# Altium integrated library Diodes - TVS.IntLib: 5379 symbols (part 25 of 122)
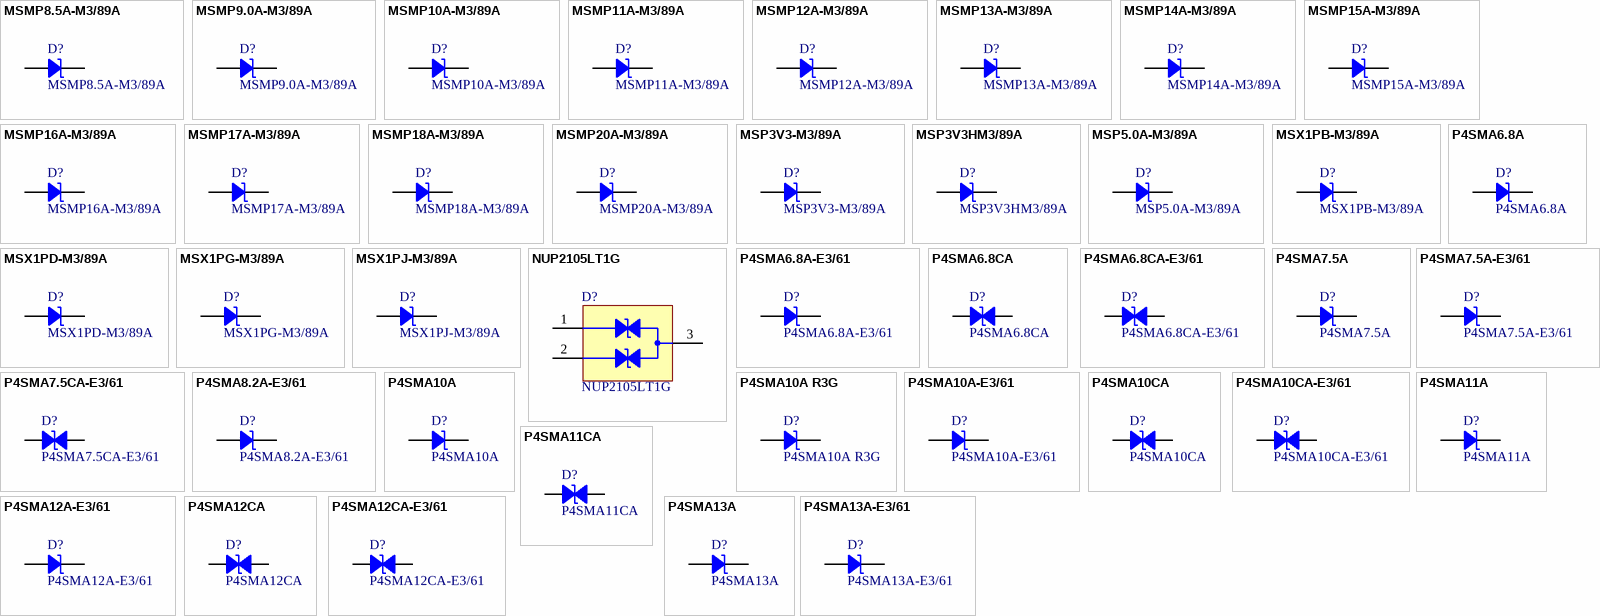
[diagram p158: symbols MSMP8.5A-M3/89A to P4SMA13A-E3/61]

## NUP2105LT1G
designator D?
TVS DIODE 24V 44V SOT23-3; Manufacturer: ON Semiconductor; Bidirectional Channels: 2; Capacitance @ Frequency: 30pF @ 1MHz; Current - Peak Pulse (10/1000µs): 8A (8/20µs); Power Line Protection: No; Power - Peak Pulse: 350W; Type: Zener; Voltage - Breakdown (Min): 26.2V; Voltage - Reverse Standoff (Typ): 24V (Min); Part Number: NUP2105LT1G; Applications: General Purpose; ComponentLink1Description: Datasheet; ComponentLink1URL: http://www.onsemi.com/pub/Collateral/NUP2105L-D.PDF; ComponentLink2Description: DigiKey Link; ComponentLink2URL: http://digikey.com/product-detail/en/on-semiconductor/NUP2105LT1G/NUP2105LT1GOSCT-ND/1485001; Device Package: TO-236-3, SC-59, SOT-23-3; LastUpdated: 3/30/2020 4:33:57 PM; Lifecycle Status: Active; Minimum Order: 1; Mounting Type: Surface Mount; Operating Temperature: -55°C ~ 150°C (TJ); Package / Case: TO-236-3, SC-59, SOT-23-3; Packaging: TapeAndReel; PartId: 10506; Part Status: Active; Price: 0.09; Series: -; Supplier 1: DigiKey; Supplier Part Number 1: NUP2105LT1GOSCT-ND; Supplier Device Package: SOT-23-3 (TO-236); Voltage - Clamping (Max) @ Ipp: 44V
footprint ON SEMI SOT-23-3
pins: 1 I/O 1, 2 GND, 3 I/O 2

## P4SMA6.8A
designator D?
TVS DIODE 5.8V 10.5V DO214AC; Manufacturer: Bourns Inc.; Current - Peak Pulse (10/1000µs): 39A; Power Line Protection: No; Power - Peak Pulse: 400W; Type: Zener; Unidirectional Channels: 1; Voltage - Breakdown (Min): 6.45V; Part Number: P4SMA6.8A; Applications: General Purpose; ComponentLink1Description: Datasheet; ComponentLink1URL: https://www.bourns.com/docs/Product-Datasheets/P4SMA.pdf; ComponentLink2Description: DigiKey Link; ComponentLink2URL: http://digikey.com/product-detail/en/bourns-inc/P4SMA6.8A/P4SMA6.8ABBCT-ND/6181592; LastUpdated: 9/2/2020 1:20:14 AM; Lifecycle Status: Active; Minimum Order: 1; Mounting Type: Surface Mount; Operating Temperature: -55°C ~ 150°C (TJ); Package / Case: DO-214AC, SMA; Packaging: TapeAndReel; PartId: 5672; Part Status: Active; Price: 0.09; Series: -; Supplier 1: DigiKey; Supplier Part Number 1: P4SMA6.8ABBCT-ND; Supplier Device Package: DO-214AC (SMA); Voltage - Clamping (Max) @ Ipp: 10.5V; Voltage - Reverse Standoff (Typ): 5.8V
footprint DO214AC SMA
pins: 1, 2

## P4SMA6.8A-E3/61
designator D?
TVS DIODE 5.8V 10.5V DO214AC; Manufacturer: Vishay Semiconductor Diodes Division; Current - Peak Pulse (10/1000µs): 38.1A; Power Line Protection: No; Power - Peak Pulse: 400W; Type: Zener; Unidirectional Channels: 1; Voltage - Breakdown (Min): 6.45V; Part Number: P4SMA6.8A-E3/61; Applications: General Purpose; ComponentLink1Description: Datasheet; ComponentLink1URL: http://www.vishay.com/docs/88367/p4sma.pdf; ComponentLink2Description: DigiKey Link; ComponentLink2URL: http://digikey.com/product-detail/en/vishay-semiconductor-diodes-division/P4SMA6.8A-E3-61/P4SMA6.8A-E3-61GICT-ND/5639066; LastUpdated: 9/2/2020 1:20:15 AM; Lifecycle Status: Active; Minimum Order: 1; Mounting Type: Surface Mount; Operating Temperature: -65°C ~ 150°C (TJ); Package / Case: DO-214AC, SMA; Packaging: TapeAndReel; PartId: 5864; Part Status: Active; Price: 0.10; Series: P4SMA, TransZorb®; Supplier 1: DigiKey; Supplier Part Number 1: P4SMA6.8A-E3/61GICT-ND; Supplier Device Package: DO-214AC (SMA); Voltage - Clamping (Max) @ Ipp: 10.5V; Voltage - Reverse Standoff (Typ): 5.8V
footprint DO214AC SMA
pins: 1, 2

## P4SMA6.8CA
designator D?
TVS DIODE 5.8V 10.5V DO214AC; Manufacturer: Bourns Inc.; Bidirectional Channels: 1; Current - Peak Pulse (10/1000µs): 39A; Power Line Protection: No; Power - Peak Pulse: 400W; Type: Zener; Voltage - Breakdown (Min): 6.45V; Part Number: P4SMA6.8CA; Applications: General Purpose; ComponentLink1Description: Datasheet; ComponentLink1URL: https://www.bourns.com/docs/Product-Datasheets/P4SMA.pdf; ComponentLink2Description: DigiKey Link; ComponentLink2URL: http://digikey.com/product-detail/en/bourns-inc/P4SMA6.8CA/P4SMA6.8CABBCT-ND/6708223; LastUpdated: 9/2/2020 1:27:51 AM; Lifecycle Status: Active; Minimum Order: 1; Mounting Type: Surface Mount; Operating Temperature: -55°C ~ 150°C (TJ); Package / Case: DO-214AC, SMA; Packaging: TapeAndReel; PartId: 7340; Part Status: Active; Price: 0.09; Series: -; Supplier 1: DigiKey; Supplier Part Number 1: P4SMA6.8CABBCT-ND; Supplier Device Package: DO-214AC (SMA); Voltage - Clamping (Max) @ Ipp: 10.5V; Voltage - Reverse Standoff (Typ): 5.8V
footprint DO214AC SMA
pins: 1, 2

## P4SMA6.8CA-E3/61
designator D?
TVS DIODE 5.8V 10.5V DO214AC; Manufacturer: Vishay Semiconductor Diodes Division; Bidirectional Channels: 1; Current - Peak Pulse (10/1000µs): 38.1A; Power Line Protection: No; Power - Peak Pulse: 400W; Type: Zener; Voltage - Breakdown (Min): 6.45V; Part Number: P4SMA6.8CA-E3/61; Applications: General Purpose; ComponentLink1Description: Datasheet; ComponentLink1URL: http://www.vishay.com/docs/88367/p4sma.pdf; ComponentLink2Description: DigiKey Link; ComponentLink2URL: http://digikey.com/product-detail/en/vishay-semiconductor-diodes-division/P4SMA6.8CA-E3-61/P4SMA6.8CA-E3-61GICT-ND/5639067; LastUpdated: 9/2/2020 1:27:50 AM; Lifecycle Status: Active; Minimum Order: 1; Mounting Type: Surface Mount; Operating Temperature: -65°C ~ 150°C (TJ); Package / Case: DO-214AC, SMA; Packaging: TapeAndReel; PartId: 7286; Part Status: Active; Price: 0.11; Series: P4SMA, TransZorb®; Supplier 1: DigiKey; Supplier Part Number 1: P4SMA6.8CA-E3/61GICT-ND; Supplier Device Package: DO-214AC (SMA); Voltage - Clamping (Max) @ Ipp: 10.5V; Voltage - Reverse Standoff (Typ): 5.8V
footprint DO214AC SMA
pins: 1, 2

## P4SMA7.5A
designator D?
TVS DIODE 6.4V 11.3V DO214AC; Manufacturer: Bourns Inc.; Current - Peak Pulse (10/1000µs): 36.3A; Power Line Protection: No; Power - Peak Pulse: 400W; Type: Zener; Unidirectional Channels: 1; Voltage - Breakdown (Min): 7.13V; Part Number: P4SMA7.5A; Applications: General Purpose; ComponentLink1Description: Datasheet; ComponentLink1URL: https://www.bourns.com/docs/Product-Datasheets/P4SMA.pdf; ComponentLink2Description: DigiKey Link; ComponentLink2URL: http://digikey.com/product-detail/en/bourns-inc/P4SMA7.5A/P4SMA7.5ABBCT-ND/6708225; LastUpdated: 9/2/2020 1:20:14 AM; Lifecycle Status: Active; Minimum Order: 1; Mounting Type: Surface Mount; Operating Temperature: -55°C ~ 150°C (TJ); Package / Case: DO-214AC, SMA; Packaging: TapeAndReel; PartId: 5662; Part Status: Active; Price: 0.09; Series: -; Supplier 1: DigiKey; Supplier Part Number 1: P4SMA7.5ABBCT-ND; Supplier Device Package: DO-214AC (SMA); Voltage - Clamping (Max) @ Ipp: 11.3V; Voltage - Reverse Standoff (Typ): 6.4V
footprint DO214AC SMA
pins: 1, 2

## P4SMA7.5A-E3/61
designator D?
TVS DIODE 6.4V 11.3V DO214AC; Manufacturer: Vishay Semiconductor Diodes Division; Current - Peak Pulse (10/1000µs): 35.4A; Power Line Protection: No; Power - Peak Pulse: 400W; Type: Zener; Unidirectional Channels: 1; Voltage - Breakdown (Min): 7.13V; Part Number: P4SMA7.5A-E3/61; Applications: General Purpose; ComponentLink1Description: Datasheet; ComponentLink1URL: http://www.vishay.com/docs/88367/p4sma.pdf; ComponentLink2Description: DigiKey Link; ComponentLink2URL: http://digikey.com/product-detail/en/vishay-semiconductor-diodes-division/P4SMA7.5A-E3-61/P4SMA7.5A-E3-61GICT-ND/5639072; LastUpdated: 9/2/2020 1:20:14 AM; Lifecycle Status: Active; Minimum Order: 1; Mounting Type: Surface Mount; Operating Temperature: -65°C ~ 150°C (TJ); Package / Case: DO-214AC, SMA; Packaging: TapeAndReel; PartId: 5682; Part Status: Active; Price: 0.10; Series: P4SMA, TransZorb®; Supplier 1: DigiKey; Supplier Part Number 1: P4SMA7.5A-E3/61GICT-ND; Supplier Device Package: DO-214AC (SMA); Voltage - Clamping (Max) @ Ipp: 11.3V; Voltage - Reverse Standoff (Typ): 6.4V
footprint DO214AC SMA
pins: 1, 2

## P4SMA7.5CA-E3/61
designator D?
TVS DIODE 6.4V 11.3V DO214AC; Manufacturer: Vishay Semiconductor Diodes Division; Bidirectional Channels: 1; Current - Peak Pulse (10/1000µs): 35.4A; Power Line Protection: No; Power - Peak Pulse: 400W; Type: Zener; Voltage - Breakdown (Min): 7.13V; Part Number: P4SMA7.5CA-E3/61; Applications: General Purpose; ComponentLink1Description: Datasheet; ComponentLink1URL: http://www.vishay.com/docs/88367/p4sma.pdf; ComponentLink2Description: DigiKey Link; ComponentLink2URL: http://digikey.com/product-detail/en/vishay-semiconductor-diodes-division/P4SMA7.5CA-E3-61/P4SMA7.5CA-E3-61GICT-ND/5639073; LastUpdated: 9/2/2020 1:27:51 AM; Lifecycle Status: Active; Minimum Order: 1; Mounting Type: Surface Mount; Operating Temperature: -65°C ~ 150°C (TJ); Package / Case: DO-214AC, SMA; Packaging: TapeAndReel; PartId: 7354; Part Status: Active; Price: 0.11; Series: P4SMA, TransZorb®; Supplier 1: DigiKey; Supplier Part Number 1: P4SMA7.5CA-E3/61GICT-ND; Supplier Device Package: DO-214AC (SMA); Voltage - Clamping (Max) @ Ipp: 11.3V; Voltage - Reverse Standoff (Typ): 6.4V
footprint DO214AC SMA
pins: 1, 2

## P4SMA8.2A-E3/61
designator D?
TVS DIODE 7.02V 12.1V DO214AC; Manufacturer: Vishay Semiconductor Diodes Division; Current - Peak Pulse (10/1000µs): 33.1A; Power Line Protection: No; Power - Peak Pulse: 400W; Type: Zener; Unidirectional Channels: 1; Voltage - Breakdown (Min): 7.79V; Part Number: P4SMA8.2A-E3/61; Applications: General Purpose; ComponentLink1Description: Datasheet; ComponentLink1URL: http://www.vishay.com/docs/88367/p4sma.pdf; ComponentLink2Description: DigiKey Link; ComponentLink2URL: http://digikey.com/product-detail/en/vishay-semiconductor-diodes-division/P4SMA8.2A-E3-61/P4SMA8.2A-E3-61GICT-ND/5639076; LastUpdated: 9/2/2020 1:20:13 AM; Lifecycle Status: Active; Minimum Order: 1; Mounting Type: Surface Mount; Operating Temperature: -65°C ~ 150°C (TJ); Package / Case: DO-214AC, SMA; Packaging: TapeAndReel; PartId: 5595; Part Status: Active; Price: 0.10; Series: P4SMA, TransZorb®; Supplier 1: DigiKey; Supplier Part Number 1: P4SMA8.2A-E3/61GICT-ND; Supplier Device Package: DO-214AC (SMA); Voltage - Clamping (Max) @ Ipp: 12.1V; Voltage - Reverse Standoff (Typ): 7.02V
footprint DO214AC SMA
pins: 1, 2

## P4SMA10A
designator D?
TVS DIODE 8.55V 14.5V DO214AC; Manufacturer: Littelfuse Inc.; Current - Peak Pulse (10/1000µs): 28.3A; Power Line Protection: No; Power - Peak Pulse: 400W; Type: Zener; Unidirectional Channels: 1; Voltage - Breakdown (Min): 9.5V; Part Number: P4SMA10A; Applications: General Purpose; ComponentLink1Description: Datasheet; ComponentLink1URL: https://www.littelfuse.com/~/media/electronics/datasheets/tvs_diodes/littelfuse_tvs_diode_p4sma_datasheet.pdf.pdf; ComponentLink2Description: DigiKey Link; ComponentLink2URL: http://digikey.com/product-detail/en/littelfuse-inc/P4SMA10A/P4SMA10ACT-ND/2770325; LastUpdated: 9/2/2020 1:20:16 AM; Lifecycle Status: Active; Minimum Order: 1; Mounting Type: Surface Mount; Operating Temperature: -65°C ~ 150°C (TJ); Package / Case: DO-214AC, SMA; Packaging: TapeAndReel; PartId: 5910; Part Status: Active; Price: 0.13; Series: P4SMA; Supplier 1: DigiKey; Supplier Part Number 1: P4SMA10ACT-ND; Supplier Device Package: DO-214AC (SMA); Voltage - Clamping (Max) @ Ipp: 14.5V; Voltage - Reverse Standoff (Typ): 8.55V
footprint DO214AC SMA
pins: 1, 2

## P4SMA10A R3G
designator D?
TVS DIODE 8.55V 14.5V DO214AC; Manufacturer: Taiwan Semiconductor Corporation; Current - Peak Pulse (10/1000µs): 29A; Power Line Protection: No; Power - Peak Pulse: 400W; Type: Zener; Unidirectional Channels: 1; Voltage - Breakdown (Min): 9.5V; Part Number: P4SMA10A R3G; Applications: General Purpose; ComponentLink1Description: Datasheet; ComponentLink1URL: https://www.taiwansemi.com/products/datasheet/P4SMA%20SERIES_Q1705.pdf; ComponentLink2Description: DigiKey Link; ComponentLink2URL: http://digikey.com/product-detail/en/taiwan-semiconductor-corporation/P4SMA10A-R3G/P4SMA10AR3GCT-ND/7644319; LastUpdated: 9/2/2020 1:20:12 AM; Lifecycle Status: Active; Minimum Order: 1; Mounting Type: Surface Mount; Operating Temperature: -55°C ~ 150°C (TJ); Package / Case: DO-214AC, SMA; Packaging: TapeAndReel; PartId: 5551; Part Status: Active; Price: 0.11; Series: P4SMA; Supplier 1: DigiKey; Supplier Part Number 1: P4SMA10AR3GCT-ND; Supplier Device Package: DO-214AC (SMA); Voltage - Clamping (Max) @ Ipp: 14.5V; Voltage - Reverse Standoff (Typ): 8.55V
footprint DO214AC SMA
pins: 1, 2

## P4SMA10A-E3/61
designator D?
TVS DIODE 8.55V 14.5V DO214AC; Manufacturer: Vishay Semiconductor Diodes Division; Current - Peak Pulse (10/1000µs): 27.6A; Power Line Protection: No; Power - Peak Pulse: 400W; Type: Zener; Unidirectional Channels: 1; Voltage - Breakdown (Min): 9.5V; Part Number: P4SMA10A-E3/61; Applications: General Purpose; ComponentLink1Description: Datasheet; ComponentLink1URL: http://www.vishay.com/docs/88367/p4sma.pdf; ComponentLink2Description: DigiKey Link; ComponentLink2URL: http://digikey.com/product-detail/en/vishay-semiconductor-diodes-division/P4SMA10A-E3-61/P4SMA10A-E3-61GICT-ND/5639016; LastUpdated: 9/2/2020 1:20:17 AM; Lifecycle Status: Active; Minimum Order: 1; Mounting Type: Surface Mount; Operating Temperature: -65°C ~ 150°C (TJ); Package / Case: DO-214AC, SMA; Packaging: TapeAndReel; PartId: 6080; Part Status: Active; Price: 0.10; Series: P4SMA, TransZorb®; Supplier 1: DigiKey; Supplier Part Number 1: P4SMA10A-E3/61GICT-ND; Supplier Device Package: DO-214AC (SMA); Voltage - Clamping (Max) @ Ipp: 14.5V; Voltage - Reverse Standoff (Typ): 8.55V
footprint DO214AC SMA
pins: 1, 2

## P4SMA10CA
designator D?
TVS DIODE 8.55V 14.5V DO214AC; Manufacturer: Bourns Inc.; Bidirectional Channels: 1; Current - Peak Pulse (10/1000µs): 28.3A; Power Line Protection: No; Power - Peak Pulse: 400W; Type: Zener; Voltage - Breakdown (Min): 9.5V; Part Number: P4SMA10CA; Applications: General Purpose; ComponentLink1Description: Datasheet; ComponentLink1URL: https://www.bourns.com/docs/Product-Datasheets/P4SMA.pdf; ComponentLink2Description: DigiKey Link; ComponentLink2URL: http://digikey.com/product-detail/en/bourns-inc/P4SMA10CA/P4SMA10CABBCT-ND/6708197; LastUpdated: 9/2/2020 1:27:51 AM; Lifecycle Status: Active; Minimum Order: 1; Mounting Type: Surface Mount; Operating Temperature: -55°C ~ 150°C (TJ); Package / Case: DO-214AC, SMA; Packaging: TapeAndReel; PartId: 7342; Part Status: Active; Price: 0.09; Series: -; Supplier 1: DigiKey; Supplier Part Number 1: P4SMA10CABBCT-ND; Supplier Device Package: DO-214AC (SMA); Voltage - Clamping (Max) @ Ipp: 14.5V; Voltage - Reverse Standoff (Typ): 8.55V
footprint DO214AC SMA
pins: 1, 2

## P4SMA10CA-E3/61
designator D?
TVS DIODE 8.55V 14.5V DO214AC; Manufacturer: Vishay Semiconductor Diodes Division; Bidirectional Channels: 1; Current - Peak Pulse (10/1000µs): 27.6A; Power Line Protection: No; Power - Peak Pulse: 400W; Type: Zener; Voltage - Breakdown (Min): 9.5V; Part Number: P4SMA10CA-E3/61; Applications: General Purpose; ComponentLink1Description: Datasheet; ComponentLink1URL: http://www.vishay.com/docs/88367/p4sma.pdf; ComponentLink2Description: DigiKey Link; ComponentLink2URL: http://digikey.com/product-detail/en/vishay-semiconductor-diodes-division/P4SMA10CA-E3-61/P4SMA10CA-E3-61GICT-ND/5639017; LastUpdated: 9/2/2020 1:27:53 AM; Lifecycle Status: Active; Minimum Order: 1; Mounting Type: Surface Mount; Operating Temperature: -65°C ~ 150°C (TJ); Package / Case: DO-214AC, SMA; Packaging: TapeAndReel; PartId: 7587; Part Status: Active; Price: 0.11; Series: P4SMA, TransZorb®; Supplier 1: DigiKey; Supplier Part Number 1: P4SMA10CA-E3/61GICT-ND; Supplier Device Package: DO-214AC (SMA); Voltage - Clamping (Max) @ Ipp: 14.5V; Voltage - Reverse Standoff (Typ): 8.55V
footprint DO214AC SMA
pins: 1, 2

## P4SMA11A
designator D?
TVS DIODE 9.4V 15.6V DO214AC; Manufacturer: Bourns Inc.; Current - Peak Pulse (10/1000µs): 26.3A; Power Line Protection: No; Power - Peak Pulse: 400W; Type: Zener; Unidirectional Channels: 1; Voltage - Breakdown (Min): 10.5V; Part Number: P4SMA11A; Applications: General Purpose; ComponentLink1Description: Datasheet; ComponentLink1URL: https://www.bourns.com/docs/Product-Datasheets/P4SMA.pdf; ComponentLink2Description: DigiKey Link; ComponentLink2URL: http://digikey.com/product-detail/en/bourns-inc/P4SMA11A/P4SMA11ABBCT-ND/6708198; LastUpdated: 9/2/2020 1:20:18 AM; Lifecycle Status: Active; Minimum Order: 1; Mounting Type: Surface Mount; Operating Temperature: -55°C ~ 150°C (TJ); Package / Case: DO-214AC, SMA; Packaging: TapeAndReel; PartId: 6144; Part Status: Active; Price: 0.09; Series: -; Supplier 1: DigiKey; Supplier Part Number 1: P4SMA11ABBCT-ND; Supplier Device Package: DO-214AC (SMA); Voltage - Clamping (Max) @ Ipp: 15.6V; Voltage - Reverse Standoff (Typ): 9.4V
footprint DO214AC SMA
pins: 1, 2

## P4SMA11CA
designator D?
TVS DIODE 9.4V 15.6V DO214AC; Manufacturer: Littelfuse Inc.; Bidirectional Channels: 1; Current - Peak Pulse (10/1000µs): 26.3A; Power Line Protection: No; Power - Peak Pulse: 400W; Type: Zener; Voltage - Breakdown (Min): 10.5V; Part Number: P4SMA11CA; Applications: General Purpose; ComponentLink1Description: Datasheet; ComponentLink1URL: https://www.littelfuse.com/~/media/electronics/datasheets/tvs_diodes/littelfuse_tvs_diode_p4sma_datasheet.pdf.pdf; ComponentLink2Description: DigiKey Link; ComponentLink2URL: http://digikey.com/product-detail/en/littelfuse-inc/P4SMA11CA/P4SMA11CACT-ND/2770327; LastUpdated: 9/2/2020 1:27:52 AM; Lifecycle Status: Active; Minimum Order: 1; Mounting Type: Surface Mount; Operating Temperature: -65°C ~ 150°C (TJ); Package / Case: DO-214AC, SMA; Packaging: TapeAndReel; PartId: 7497; Part Status: Active; Price: 0.14; Series: P4SMA; Supplier 1: DigiKey; Supplier Part Number 1: P4SMA11CACT-ND; Supplier Device Package: DO-214AC (SMA); Voltage - Clamping (Max) @ Ipp: 15.6V; Voltage - Reverse Standoff (Typ): 9.4V
footprint DO214AC SMA
pins: 1, 2

## P4SMA12A-E3/61
designator D?
TVS DIODE 10.2V 16.7V DO214AC; Manufacturer: Vishay Semiconductor Diodes Division; Current - Peak Pulse (10/1000µs): 24A; Power Line Protection: No; Power - Peak Pulse: 400W; Type: Zener; Unidirectional Channels: 1; Voltage - Breakdown (Min): 11.4V; Part Number: P4SMA12A-E3/61; Applications: General Purpose; ComponentLink1Description: Datasheet; ComponentLink1URL: http://www.vishay.com/docs/88367/p4sma.pdf; ComponentLink2Description: DigiKey Link; ComponentLink2URL: http://digikey.com/product-detail/en/vishay-semiconductor-diodes-division/P4SMA12A-E3-61/P4SMA12A-E3-61GICT-ND/5639020; LastUpdated: 9/2/2020 1:20:17 AM; Lifecycle Status: Active; Minimum Order: 1; Mounting Type: Surface Mount; Operating Temperature: -65°C ~ 150°C (TJ); Package / Case: DO-214AC, SMA; Packaging: TapeAndReel; PartId: 6078; Part Status: Active; Price: 0.10; Series: P4SMA, TransZorb®; Supplier 1: DigiKey; Supplier Part Number 1: P4SMA12A-E3/61GICT-ND; Supplier Device Package: DO-214AC (SMA); Voltage - Clamping (Max) @ Ipp: 16.7V; Voltage - Reverse Standoff (Typ): 10.2V
footprint DO214AC SMA
pins: 1, 2

## P4SMA12CA
designator D?
TVS DIODE 10.2V 16.7V DO214AC; Manufacturer: Bourns Inc.; Bidirectional Channels: 1; Current - Peak Pulse (10/1000µs): 24.6A; Power Line Protection: No; Power - Peak Pulse: 400W; Type: Zener; Voltage - Breakdown (Min): 11.4V; Part Number: P4SMA12CA; Applications: General Purpose; ComponentLink1Description: Datasheet; ComponentLink1URL: https://www.bourns.com/docs/Product-Datasheets/P4SMA.pdf; ComponentLink2Description: DigiKey Link; ComponentLink2URL: http://digikey.com/product-detail/en/bourns-inc/P4SMA12CA/P4SMA12CABBCT-ND/6708199; LastUpdated: 9/2/2020 1:27:52 AM; Lifecycle Status: Active; Minimum Order: 1; Mounting Type: Surface Mount; Operating Temperature: -55°C ~ 150°C (TJ); Package / Case: DO-214AC, SMA; Packaging: TapeAndReel; PartId: 7466; Part Status: Active; Price: 0.09; Series: -; Supplier 1: DigiKey; Supplier Part Number 1: P4SMA12CABBCT-ND; Supplier Device Package: DO-214AC (SMA); Voltage - Clamping (Max) @ Ipp: 16.7V; Voltage - Reverse Standoff (Typ): 10.2V
footprint DO214AC SMA
pins: 1, 2

## P4SMA12CA-E3/61
designator D?
TVS DIODE 10.2V 16.7V DO214AC; Manufacturer: Vishay Semiconductor Diodes Division; Bidirectional Channels: 1; Current - Peak Pulse (10/1000µs): 24A; Power Line Protection: No; Power - Peak Pulse: 400W; Type: Zener; Voltage - Breakdown (Min): 11.4V; Part Number: P4SMA12CA-E3/61; Applications: General Purpose; ComponentLink1Description: Datasheet; ComponentLink1URL: http://www.vishay.com/docs/88367/p4sma.pdf; ComponentLink2Description: DigiKey Link; ComponentLink2URL: http://digikey.com/product-detail/en/vishay-semiconductor-diodes-division/P4SMA12CA-E3-61/P4SMA12CA-E3-61GICT-ND/5639021; LastUpdated: 9/2/2020 1:27:53 AM; Lifecycle Status: Active; Minimum Order: 1; Mounting Type: Surface Mount; Operating Temperature: -65°C ~ 150°C (TJ); Package / Case: DO-214AC, SMA; Packaging: TapeAndReel; PartId: 7586; Part Status: Active; Price: 0.11; Series: P4SMA, TransZorb®; Supplier 1: DigiKey; Supplier Part Number 1: P4SMA12CA-E3/61GICT-ND; Supplier Device Package: DO-214AC (SMA); Voltage - Clamping (Max) @ Ipp: 16.7V; Voltage - Reverse Standoff (Typ): 10.2V
footprint DO214AC SMA
pins: 1, 2

## P4SMA13A
designator D?
TVS DIODE 11.1V 18.2V DO214AC; Manufacturer: Littelfuse Inc.; Current - Peak Pulse (10/1000µs): 22.5A; Power Line Protection: No; Power - Peak Pulse: 400W; Type: Zener; Unidirectional Channels: 1; Voltage - Breakdown (Min): 12.4V; Part Number: P4SMA13A; Applications: General Purpose; ComponentLink1Description: Datasheet; ComponentLink1URL: https://www.littelfuse.com/~/media/electronics/datasheets/tvs_diodes/littelfuse_tvs_diode_p4sma_datasheet.pdf.pdf; ComponentLink2Description: DigiKey Link; ComponentLink2URL: http://digikey.com/product-detail/en/littelfuse-inc/P4SMA13A/P4SMA13ACT-ND/2770330; LastUpdated: 9/2/2020 1:20:16 AM; Lifecycle Status: Active; Minimum Order: 1; Mounting Type: Surface Mount; Operating Temperature: -65°C ~ 150°C (TJ); Package / Case: DO-214AC, SMA; Packaging: TapeAndReel; PartId: 5900; Part Status: Active; Price: 0.13; Series: P4SMA; Supplier 1: DigiKey; Supplier Part Number 1: P4SMA13ACT-ND; Supplier Device Package: DO-214AC (SMA); Voltage - Clamping (Max) @ Ipp: 18.2V; Voltage - Reverse Standoff (Typ): 11.1V
footprint DO214AC SMA
pins: 1, 2

## P4SMA13A-E3/61
designator D?
TVS DIODE 11.1V 18.2V DO214AC; Manufacturer: Vishay Semiconductor Diodes Division; Current - Peak Pulse (10/1000µs): 22A; Power Line Protection: No; Power - Peak Pulse: 400W; Type: Zener; Unidirectional Channels: 1; Voltage - Breakdown (Min): 12.4V; Part Number: P4SMA13A-E3/61; Applications: General Purpose; ComponentLink1Description: Datasheet; ComponentLink1URL: http://www.vishay.com/docs/88367/p4sma.pdf; ComponentLink2Description: DigiKey Link; ComponentLink2URL: http://digikey.com/product-detail/en/vishay-semiconductor-diodes-division/P4SMA13A-E3-61/P4SMA13A-E3-61GICT-ND/5639023; LastUpdated: 9/2/2020 1:20:13 AM; Lifecycle Status: Active; Minimum Order: 1; Mounting Type: Surface Mount; Operating Temperature: -65°C ~ 150°C (TJ); Package / Case: DO-214AC, SMA; Packaging: TapeAndReel; PartId: 5588; Part Status: Active; Price: 0.11; Series: P4SMA, TransZorb®; Supplier 1: DigiKey; Supplier Part Number 1: P4SMA13A-E3/61GICT-ND; Supplier Device Package: DO-214AC (SMA); Voltage - Clamping (Max) @ Ipp: 18.2V; Voltage - Reverse Standoff (Typ): 11.1V
footprint DO214AC SMA
pins: 1, 2

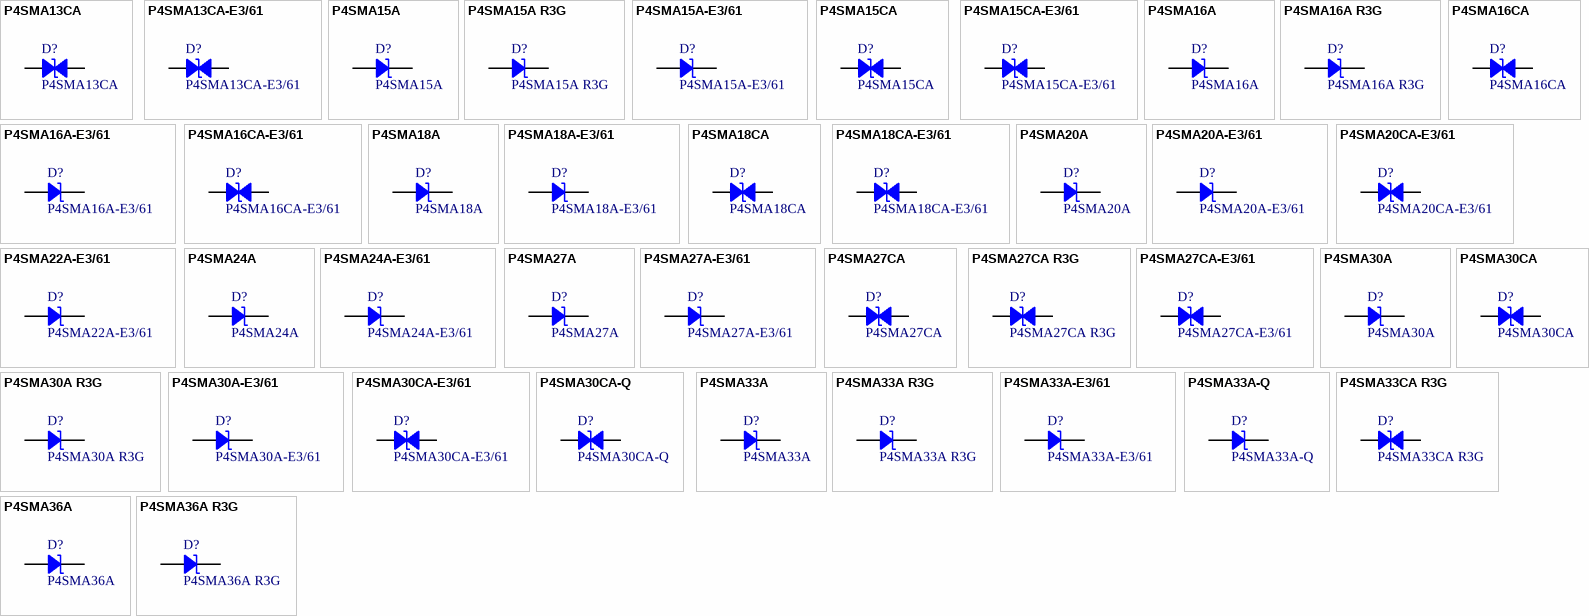
[diagram p27: symbols P4SMA13CA to P4SMA36A R3G]

## P4SMA13CA
designator D?
TVS DIODE 11.1V 18.2V DO214AC; Manufacturer: Littelfuse Inc.; Bidirectional Channels: 1; Current - Peak Pulse (10/1000µs): 22.5A; Power Line Protection: No; Power - Peak Pulse: 400W; Type: Zener; Voltage - Breakdown (Min): 12.4V; Part Number: P4SMA13CA; Applications: General Purpose; ComponentLink1Description: Datasheet; ComponentLink1URL: https://www.littelfuse.com/~/media/electronics/datasheets/tvs_diodes/littelfuse_tvs_diode_p4sma_datasheet.pdf.pdf; ComponentLink2Description: DigiKey Link; ComponentLink2URL: http://digikey.com/product-detail/en/littelfuse-inc/P4SMA13CA/P4SMA13CACT-ND/2770331; LastUpdated: 9/2/2020 1:27:55 AM; Lifecycle Status: Active; Minimum Order: 1; Mounting Type: Surface Mount; Operating Temperature: -65°C ~ 150°C (TJ); Package / Case: DO-214AC, SMA; Packaging: TapeAndReel; PartId: 7861; Part Status: Active; Price: 0.14; Series: P4SMA; Supplier 1: DigiKey; Supplier Part Number 1: P4SMA13CACT-ND; Supplier Device Package: DO-214AC (SMA); Voltage - Clamping (Max) @ Ipp: 18.2V; Voltage - Reverse Standoff (Typ): 11.1V
footprint DO214AC SMA
pins: 1, 2

## P4SMA13CA-E3/61
designator D?
TVS DIODE 11.1V 18.2V DO214AC; Manufacturer: Vishay Semiconductor Diodes Division; Bidirectional Channels: 1; Current - Peak Pulse (10/1000µs): 22A; Power Line Protection: No; Power - Peak Pulse: 400W; Type: Zener; Voltage - Breakdown (Min): 12.4V; Part Number: P4SMA13CA-E3/61; Applications: General Purpose; ComponentLink1Description: Datasheet; ComponentLink1URL: http://www.vishay.com/docs/88367/p4sma.pdf; ComponentLink2Description: DigiKey Link; ComponentLink2URL: http://digikey.com/product-detail/en/vishay-semiconductor-diodes-division/P4SMA13CA-E3-61/P4SMA13CA-E3-61GICT-ND/5639024; LastUpdated: 9/2/2020 1:27:53 AM; Lifecycle Status: Active; Minimum Order: 1; Mounting Type: Surface Mount; Operating Temperature: -65°C ~ 150°C (TJ); Package / Case: DO-214AC, SMA; Packaging: TapeAndReel; PartId: 7567; Part Status: Active; Price: 0.11; Series: P4SMA, TransZorb®; Supplier 1: DigiKey; Supplier Part Number 1: P4SMA13CA-E3/61GICT-ND; Supplier Device Package: DO-214AC (SMA); Voltage - Clamping (Max) @ Ipp: 18.2V; Voltage - Reverse Standoff (Typ): 11.1V
footprint DO214AC SMA
pins: 1, 2

## P4SMA15A
designator D?
TVS DIODE 12.8V 21.2V DO214AC; Manufacturer: Bourns Inc.; Current - Peak Pulse (10/1000µs): 19.3A; Power Line Protection: No; Power - Peak Pulse: 400W; Type: Zener; Unidirectional Channels: 1; Voltage - Breakdown (Min): 14.3V; Part Number: P4SMA15A; Applications: General Purpose; ComponentLink1Description: Datasheet; ComponentLink1URL: https://www.bourns.com/docs/Product-Datasheets/P4SMA.pdf; ComponentLink2Description: DigiKey Link; ComponentLink2URL: http://digikey.com/product-detail/en/bourns-inc/P4SMA15A/P4SMA15ABBCT-ND/6708201; LastUpdated: 9/2/2020 1:20:15 AM; Lifecycle Status: Active; Minimum Order: 1; Mounting Type: Surface Mount; Operating Temperature: -55°C ~ 150°C (TJ); Package / Case: DO-214AC, SMA; Packaging: TapeAndReel; PartId: 5833; Part Status: Active; Price: 0.08; Series: -; Supplier 1: DigiKey; Supplier Part Number 1: P4SMA15ABBCT-ND; Supplier Device Package: DO-214AC (SMA); Voltage - Clamping (Max) @ Ipp: 21.2V; Voltage - Reverse Standoff (Typ): 12.8V
footprint DO214AC SMA
pins: 1, 2

## P4SMA15A R3G
designator D?
TVS DIODE 12.8V 21.2V DO214AC; Manufacturer: Taiwan Semiconductor Corporation; Current - Peak Pulse (10/1000µs): 20A; Power Line Protection: No; Power - Peak Pulse: 400W; Type: Zener; Unidirectional Channels: 1; Voltage - Breakdown (Min): 14.25V; Part Number: P4SMA15A R3G; Applications: General Purpose; ComponentLink1Description: Datasheet; ComponentLink1URL: https://www.taiwansemi.com/products/datasheet/P4SMA%20SERIES_Q1705.pdf; ComponentLink2Description: DigiKey Link; ComponentLink2URL: http://digikey.com/product-detail/en/taiwan-semiconductor-corporation/P4SMA15A-R3G/P4SMA15AR3GCT-ND/7357901; LastUpdated: 9/2/2020 1:20:17 AM; Lifecycle Status: Active; Minimum Order: 1; Mounting Type: Surface Mount; Operating Temperature: -55°C ~ 150°C (TJ); Package / Case: DO-214AC, SMA; Packaging: TapeAndReel; PartId: 6097; Part Status: Active; Price: 0.11; Series: P4SMA; Supplier 1: DigiKey; Supplier Part Number 1: P4SMA15AR3GCT-ND; Supplier Device Package: DO-214AC (SMA); Voltage - Clamping (Max) @ Ipp: 21.2V; Voltage - Reverse Standoff (Typ): 12.8V
footprint DO214AC SMA
pins: 1, 2

## P4SMA15A-E3/61
designator D?
TVS DIODE 12.8V 21.2V DO214AC; Manufacturer: Vishay Semiconductor Diodes Division; Current - Peak Pulse (10/1000µs): 18.9A; Power Line Protection: No; Power - Peak Pulse: 400W; Type: Zener; Unidirectional Channels: 1; Voltage - Breakdown (Min): 14.3V; Part Number: P4SMA15A-E3/61; Applications: General Purpose; ComponentLink1Description: Datasheet; ComponentLink1URL: http://www.vishay.com/docs/88367/p4sma.pdf; ComponentLink2Description: DigiKey Link; ComponentLink2URL: http://digikey.com/product-detail/en/vishay-semiconductor-diodes-division/P4SMA15A-E3-61/P4SMA15A-E3-61GICT-ND/3847607; LastUpdated: 9/2/2020 1:20:13 AM; Lifecycle Status: Active; Minimum Order: 1; Mounting Type: Surface Mount; Operating Temperature: -65°C ~ 150°C (TJ); Package / Case: DO-214AC, SMA; Packaging: TapeAndReel; PartId: 5599; Part Status: Active; Price: 0.10; Series: P4SMA, TransZorb®; Supplier 1: DigiKey; Supplier Part Number 1: P4SMA15A-E3/61GICT-ND; Supplier Device Package: DO-214AC (SMA); Voltage - Clamping (Max) @ Ipp: 21.2V; Voltage - Reverse Standoff (Typ): 12.8V
footprint DO214AC SMA
pins: 1, 2

## P4SMA15CA
designator D?
TVS DIODE 12.8V 21.2V DO214AC; Manufacturer: Littelfuse Inc.; Bidirectional Channels: 1; Current - Peak Pulse (10/1000µs): 19.3A; Power Line Protection: No; Power - Peak Pulse: 400W; Type: Zener; Voltage - Breakdown (Min): 14.3V; Part Number: P4SMA15CA; Applications: General Purpose; ComponentLink1Description: Datasheet; ComponentLink1URL: https://www.littelfuse.com/~/media/electronics/datasheets/tvs_diodes/littelfuse_tvs_diode_p4sma_datasheet.pdf.pdf; ComponentLink2Description: DigiKey Link; ComponentLink2URL: http://digikey.com/product-detail/en/littelfuse-inc/P4SMA15CA/F10910CT-ND/8109607; LastUpdated: 9/2/2020 1:27:53 AM; Lifecycle Status: Active; Minimum Order: 1; Mounting Type: Surface Mount; Operating Temperature: -65°C ~ 150°C (TJ); Package / Case: DO-214AC, SMA; Packaging: TapeAndReel; PartId: 7571; Part Status: Active; Price: 0.14; Series: P4SMA; Supplier 1: DigiKey; Supplier Part Number 1: F10910CT-ND; Supplier Device Package: DO-214AC (SMA); Voltage - Clamping (Max) @ Ipp: 21.2V; Voltage - Reverse Standoff (Typ): 12.8V
footprint DO214AC SMA
pins: 1, 2

## P4SMA15CA-E3/61
designator D?
TVS DIODE 12.8V 21.2V DO214AC; Manufacturer: Vishay Semiconductor Diodes Division; Bidirectional Channels: 1; Current - Peak Pulse (10/1000µs): 18.9A; Power Line Protection: No; Power - Peak Pulse: 400W; Type: Zener; Voltage - Breakdown (Min): 14.3V; Part Number: P4SMA15CA-E3/61; Applications: General Purpose; ComponentLink1Description: Datasheet; ComponentLink1URL: http://www.vishay.com/docs/88367/p4sma.pdf; ComponentLink2Description: DigiKey Link; ComponentLink2URL: http://digikey.com/product-detail/en/vishay-semiconductor-diodes-division/P4SMA15CA-E3-61/P4SMA15CA-E3-61GICT-ND/5639027; LastUpdated: 9/2/2020 1:27:50 AM; Lifecycle Status: Active; Minimum Order: 1; Mounting Type: Surface Mount; Operating Temperature: -65°C ~ 150°C (TJ); Package / Case: DO-214AC, SMA; Packaging: TapeAndReel; PartId: 7289; Part Status: Active; Price: 0.11; Series: P4SMA, TransZorb®; Supplier 1: DigiKey; Supplier Part Number 1: P4SMA15CA-E3/61GICT-ND; Supplier Device Package: DO-214AC (SMA); Voltage - Clamping (Max) @ Ipp: 21.2V; Voltage - Reverse Standoff (Typ): 12.8V
footprint DO214AC SMA
pins: 1, 2

## P4SMA16A
designator D?
TVS DIODE 13.6V 22.5V DO214AC; Manufacturer: Littelfuse Inc.; Current - Peak Pulse (10/1000µs): 18.2A; Power Line Protection: No; Power - Peak Pulse: 400W; Type: Zener; Unidirectional Channels: 1; Voltage - Breakdown (Min): 15.2V; Part Number: P4SMA16A; Applications: General Purpose; ComponentLink1Description: Datasheet; ComponentLink1URL: https://www.littelfuse.com/~/media/electronics/datasheets/tvs_diodes/littelfuse_tvs_diode_p4sma_datasheet.pdf.pdf; ComponentLink2Description: DigiKey Link; ComponentLink2URL: http://digikey.com/product-detail/en/littelfuse-inc/P4SMA16A/P4SMA16ACT-ND/2770333; LastUpdated: 9/2/2020 1:20:16 AM; Lifecycle Status: Active; Minimum Order: 1; Mounting Type: Surface Mount; Operating Temperature: -65°C ~ 150°C (TJ); Package / Case: DO-214AC, SMA; Packaging: TapeAndReel; PartId: 5898; Part Status: Active; Price: 0.13; Series: P4SMA; Supplier 1: DigiKey; Supplier Part Number 1: P4SMA16ACT-ND; Supplier Device Package: DO-214AC (SMA); Voltage - Clamping (Max) @ Ipp: 22.5V; Voltage - Reverse Standoff (Typ): 13.6V
footprint DO214AC SMA
pins: 1, 2

## P4SMA16A R3G
designator D?
TVS DIODE 13.6V 22.5V DO214AC; Manufacturer: Taiwan Semiconductor Corporation; Current - Peak Pulse (10/1000µs): 18.6A; Power Line Protection: No; Power - Peak Pulse: 400W; Type: Zener; Unidirectional Channels: 1; Voltage - Breakdown (Min): 15.2V; Part Number: P4SMA16A R3G; Applications: General Purpose; ComponentLink1Description: Datasheet; ComponentLink1URL: https://www.taiwansemi.com/products/datasheet/P4SMA%20SERIES_Q1705.pdf; ComponentLink2Description: DigiKey Link; ComponentLink2URL: http://digikey.com/product-detail/en/taiwan-semiconductor-corporation/P4SMA16A-R3G/P4SMA16AR3GCT-ND/7357904; LastUpdated: 9/2/2020 1:20:16 AM; Lifecycle Status: Active; Minimum Order: 1; Mounting Type: Surface Mount; Operating Temperature: -55°C ~ 150°C (TJ); Package / Case: DO-214AC, SMA; Packaging: TapeAndReel; PartId: 5931; Part Status: Active; Price: 0.11; Series: P4SMA; Supplier 1: DigiKey; Supplier Part Number 1: P4SMA16AR3GCT-ND; Supplier Device Package: DO-214AC (SMA); Voltage - Clamping (Max) @ Ipp: 22.5V; Voltage - Reverse Standoff (Typ): 13.6V
footprint DO214AC SMA
pins: 1, 2

## P4SMA16A-E3/61
designator D?
TVS DIODE 13.6V 22.5V DO214AC; Manufacturer: Vishay Semiconductor Diodes Division; Current - Peak Pulse (10/1000µs): 17.8A; Power Line Protection: No; Power - Peak Pulse: 400W; Type: Zener; Unidirectional Channels: 1; Voltage - Breakdown (Min): 15.2V; Part Number: P4SMA16A-E3/61; Applications: General Purpose; ComponentLink1Description: Datasheet; ComponentLink1URL: http://www.vishay.com/docs/88367/p4sma.pdf; ComponentLink2Description: DigiKey Link; ComponentLink2URL: http://digikey.com/product-detail/en/vishay-semiconductor-diodes-division/P4SMA16A-E3-61/P4SMA16A-E3-61GICT-ND/5639029; LastUpdated: 9/2/2020 1:20:13 AM; Lifecycle Status: Active; Minimum Order: 1; Mounting Type: Surface Mount; Operating Temperature: -65°C ~ 150°C (TJ); Package / Case: DO-214AC, SMA; Packaging: TapeAndReel; PartId: 5592; Part Status: Active; Price: 0.10; Series: P4SMA, TransZorb®; Supplier 1: DigiKey; Supplier Part Number 1: P4SMA16A-E3/61GICT-ND; Supplier Device Package: DO-214AC (SMA); Voltage - Clamping (Max) @ Ipp: 22.5V; Voltage - Reverse Standoff (Typ): 13.6V
footprint DO214AC SMA
pins: 1, 2

## P4SMA16CA
designator D?
TVS DIODE 13.6V 22.5V DO214AC; Manufacturer: Bourns Inc.; Bidirectional Channels: 1; Current - Peak Pulse (10/1000µs): 18.2A; Power Line Protection: No; Power - Peak Pulse: 400W; Type: Zener; Voltage - Breakdown (Min): 15.2V; Part Number: P4SMA16CA; Applications: General Purpose; ComponentLink1Description: Datasheet; ComponentLink1URL: https://www.bourns.com/docs/Product-Datasheets/P4SMA.pdf; ComponentLink2Description: DigiKey Link; ComponentLink2URL: http://digikey.com/product-detail/en/bourns-inc/P4SMA16CA/P4SMA16CABBCT-ND/6181590; LastUpdated: 9/2/2020 1:27:51 AM; Lifecycle Status: Active; Minimum Order: 1; Mounting Type: Surface Mount; Operating Temperature: -55°C ~ 150°C (TJ); Package / Case: DO-214AC, SMA; Packaging: TapeAndReel; PartId: 7341; Part Status: Active; Price: 0.09; Series: -; Supplier 1: DigiKey; Supplier Part Number 1: P4SMA16CABBCT-ND; Supplier Device Package: DO-214AC (SMA); Voltage - Clamping (Max) @ Ipp: 22.5V; Voltage - Reverse Standoff (Typ): 13.6V
footprint DO214AC SMA
pins: 1, 2

## P4SMA16CA-E3/61
designator D?
TVS DIODE 13.6V 22.5V DO214AC; Manufacturer: Vishay Semiconductor Diodes Division; Bidirectional Channels: 1; Current - Peak Pulse (10/1000µs): 17.8A; Power Line Protection: No; Power - Peak Pulse: 400W; Type: Zener; Voltage - Breakdown (Min): 15.2V; Part Number: P4SMA16CA-E3/61; Applications: General Purpose; ComponentLink1Description: Datasheet; ComponentLink1URL: http://www.vishay.com/docs/88367/p4sma.pdf; ComponentLink2Description: DigiKey Link; ComponentLink2URL: http://digikey.com/product-detail/en/vishay-semiconductor-diodes-division/P4SMA16CA-E3-61/P4SMA16CA-E3-61GICT-ND/5639030; LastUpdated: 9/2/2020 1:27:53 AM; Lifecycle Status: Active; Minimum Order: 1; Mounting Type: Surface Mount; Operating Temperature: -65°C ~ 150°C (TJ); Package / Case: DO-214AC, SMA; Packaging: TapeAndReel; PartId: 7568; Part Status: Active; Price: 0.11; Series: P4SMA, TransZorb®; Supplier 1: DigiKey; Supplier Part Number 1: P4SMA16CA-E3/61GICT-ND; Supplier Device Package: DO-214AC (SMA); Voltage - Clamping (Max) @ Ipp: 22.5V; Voltage - Reverse Standoff (Typ): 13.6V
footprint DO214AC SMA
pins: 1, 2

## P4SMA18A
designator D?
TVS DIODE 15.3V 25.5V DO214AC; Manufacturer: Littelfuse Inc.; Current - Peak Pulse (10/1000µs): 16.1A; Power Line Protection: No; Power - Peak Pulse: 400W; Type: Zener; Unidirectional Channels: 1; Voltage - Breakdown (Min): 17.1V; Part Number: P4SMA18A; Applications: General Purpose; ComponentLink1Description: Datasheet; ComponentLink1URL: https://www.littelfuse.com/~/media/electronics/datasheets/tvs_diodes/littelfuse_tvs_diode_p4sma_datasheet.pdf.pdf; ComponentLink2Description: DigiKey Link; ComponentLink2URL: http://digikey.com/product-detail/en/littelfuse-inc/P4SMA18A/F5653CT-ND/3307035; LastUpdated: 9/2/2020 1:20:16 AM; Lifecycle Status: Active; Minimum Order: 1; Mounting Type: Surface Mount; Operating Temperature: -65°C ~ 150°C (TJ); Package / Case: DO-214AC, SMA; Packaging: TapeAndReel; PartId: 5904; Part Status: Active; Price: 0.13; Series: P4SMA; Supplier 1: DigiKey; Supplier Part Number 1: F5653CT-ND; Supplier Device Package: DO-214AC (SMA); Voltage - Clamping (Max) @ Ipp: 25.5V; Voltage - Reverse Standoff (Typ): 15.3V
footprint DO214AC SMA
pins: 1, 2

## P4SMA18A-E3/61
designator D?
TVS DIODE 15.3V 25.2V DO214AC; Manufacturer: Vishay Semiconductor Diodes Division; Current - Peak Pulse (10/1000µs): 15.9A; Power Line Protection: No; Power - Peak Pulse: 400W; Type: Zener; Unidirectional Channels: 1; Voltage - Breakdown (Min): 17.1V; Part Number: P4SMA18A-E3/61; Applications: General Purpose; ComponentLink1Description: Datasheet; ComponentLink1URL: http://www.vishay.com/docs/88367/p4sma.pdf; ComponentLink2Description: DigiKey Link; ComponentLink2URL: http://digikey.com/product-detail/en/vishay-semiconductor-diodes-division/P4SMA18A-E3-61/P4SMA18A-E3-61GICT-ND/5639034; LastUpdated: 9/2/2020 1:20:13 AM; Lifecycle Status: Active; Minimum Order: 1; Mounting Type: Surface Mount; Operating Temperature: -65°C ~ 150°C (TJ); Package / Case: DO-214AC, SMA; Packaging: TapeAndReel; PartId: 5591; Part Status: Active; Price: 0.10; Series: P4SMA, TransZorb®; Supplier 1: DigiKey; Supplier Part Number 1: P4SMA18A-E3/61GICT-ND; Supplier Device Package: DO-214AC (SMA); Voltage - Clamping (Max) @ Ipp: 25.2V; Voltage - Reverse Standoff (Typ): 15.3V
footprint DO214AC SMA
pins: 1, 2

## P4SMA18CA
designator D?
TVS DIODE 15.3V 25.5V DO214AC; Manufacturer: Littelfuse Inc.; Bidirectional Channels: 1; Current - Peak Pulse (10/1000µs): 16.1A; Power Line Protection: No; Power - Peak Pulse: 400W; Type: Zener; Voltage - Breakdown (Min): 17.1V; Part Number: P4SMA18CA; Applications: General Purpose; ComponentLink1Description: Datasheet; ComponentLink1URL: https://www.littelfuse.com/~/media/electronics/datasheets/tvs_diodes/littelfuse_tvs_diode_p4sma_datasheet.pdf.pdf; ComponentLink2Description: DigiKey Link; ComponentLink2URL: http://digikey.com/product-detail/en/littelfuse-inc/P4SMA18CA/P4SMA18CACT-ND/2770336; LastUpdated: 9/2/2020 1:27:53 AM; Lifecycle Status: Active; Minimum Order: 1; Mounting Type: Surface Mount; Operating Temperature: -65°C ~ 150°C (TJ); Package / Case: DO-214AC, SMA; Packaging: TapeAndReel; PartId: 7621; Part Status: Active; Price: 0.14; Series: P4SMA; Supplier 1: DigiKey; Supplier Part Number 1: P4SMA18CACT-ND; Supplier Device Package: DO-214AC (SMA); Voltage - Clamping (Max) @ Ipp: 25.5V; Voltage - Reverse Standoff (Typ): 15.3V
footprint DO214AC SMA
pins: 1, 2

## P4SMA18CA-E3/61
designator D?
TVS DIODE 15.3V 25.2V DO214AC; Manufacturer: Vishay Semiconductor Diodes Division; Bidirectional Channels: 1; Current - Peak Pulse (10/1000µs): 15.9A; Power Line Protection: No; Power - Peak Pulse: 400W; Type: Zener; Voltage - Breakdown (Min): 17.1V; Part Number: P4SMA18CA-E3/61; Applications: General Purpose; ComponentLink1Description: Datasheet; ComponentLink1URL: http://www.vishay.com/docs/88367/p4sma.pdf; ComponentLink2Description: DigiKey Link; ComponentLink2URL: http://digikey.com/product-detail/en/vishay-semiconductor-diodes-division/P4SMA18CA-E3-61/P4SMA18CA-E3-61GICT-ND/5639035; LastUpdated: 9/2/2020 1:27:55 AM; Lifecycle Status: Active; Minimum Order: 1; Mounting Type: Surface Mount; Operating Temperature: -65°C ~ 150°C (TJ); Package / Case: DO-214AC, SMA; Packaging: TapeAndReel; PartId: 7821; Part Status: Active; Price: 0.11; Series: P4SMA, TransZorb®; Supplier 1: DigiKey; Supplier Part Number 1: P4SMA18CA-E3/61GICT-ND; Supplier Device Package: DO-214AC (SMA); Voltage - Clamping (Max) @ Ipp: 25.2V; Voltage - Reverse Standoff (Typ): 15.3V
footprint DO214AC SMA
pins: 1, 2

## P4SMA20A
designator D?
TVS DIODE 17.1V 27.7V DO214AC; Manufacturer: Bourns Inc.; Current - Peak Pulse (10/1000µs): 14.8A; Power Line Protection: No; Power - Peak Pulse: 400W; Type: Zener; Unidirectional Channels: 1; Voltage - Breakdown (Min): 19V; Part Number: P4SMA20A; Applications: General Purpose; ComponentLink1Description: Datasheet; ComponentLink1URL: https://www.bourns.com/docs/Product-Datasheets/P4SMA.pdf; ComponentLink2Description: DigiKey Link; ComponentLink2URL: http://digikey.com/product-detail/en/bourns-inc/P4SMA20A/P4SMA20ABBCT-ND/6708205; LastUpdated: 9/2/2020 1:20:14 AM; Lifecycle Status: Active; Minimum Order: 1; Mounting Type: Surface Mount; Operating Temperature: -55°C ~ 150°C (TJ); Package / Case: DO-214AC, SMA; Packaging: TapeAndReel; PartId: 5667; Part Status: Active; Price: 0.09; Series: -; Supplier 1: DigiKey; Supplier Part Number 1: P4SMA20ABBCT-ND; Supplier Device Package: DO-214AC (SMA); Voltage - Clamping (Max) @ Ipp: 27.7V; Voltage - Reverse Standoff (Typ): 17.1V
footprint DO214AC SMA
pins: 1, 2

## P4SMA20A-E3/61
designator D?
TVS DIODE 17.1V 27.7V DO214AC; Manufacturer: Vishay Semiconductor Diodes Division; Current - Peak Pulse (10/1000µs): 14.4A; Power Line Protection: No; Power - Peak Pulse: 400W; Type: Zener; Unidirectional Channels: 1; Voltage - Breakdown (Min): 19V; Part Number: P4SMA20A-E3/61; Applications: General Purpose; ComponentLink1Description: Datasheet; ComponentLink1URL: http://www.vishay.com/docs/88367/p4sma.pdf; ComponentLink2Description: DigiKey Link; ComponentLink2URL: http://digikey.com/product-detail/en/vishay-semiconductor-diodes-division/P4SMA20A-E3-61/P4SMA20A-E3-61GICT-ND/5639038; LastUpdated: 9/2/2020 1:20:13 AM; Lifecycle Status: Active; Minimum Order: 1; Mounting Type: Surface Mount; Operating Temperature: -65°C ~ 150°C (TJ); Package / Case: DO-214AC, SMA; Packaging: TapeAndReel; PartId: 5594; Part Status: Active; Price: 0.10; Series: P4SMA, TransZorb®; Supplier 1: DigiKey; Supplier Part Number 1: P4SMA20A-E3/61GICT-ND; Supplier Device Package: DO-214AC (SMA); Voltage - Clamping (Max) @ Ipp: 27.7V; Voltage - Reverse Standoff (Typ): 17.1V
footprint DO214AC SMA
pins: 1, 2

## P4SMA20CA-E3/61
designator D?
TVS DIODE 17.1V 27.7V DO214AC; Manufacturer: Vishay Semiconductor Diodes Division; Bidirectional Channels: 1; Current - Peak Pulse (10/1000µs): 14.4A; Power Line Protection: No; Power - Peak Pulse: 400W; Type: Zener; Voltage - Breakdown (Min): 19V; Part Number: P4SMA20CA-E3/61; Applications: General Purpose; ComponentLink1Description: Datasheet; ComponentLink1URL: http://www.vishay.com/docs/88367/p4sma.pdf; ComponentLink2Description: DigiKey Link; ComponentLink2URL: http://digikey.com/product-detail/en/vishay-semiconductor-diodes-division/P4SMA20CA-E3-61/P4SMA20CA-E3-61GICT-ND/5639039; LastUpdated: 9/2/2020 1:27:50 AM; Lifecycle Status: Active; Minimum Order: 1; Mounting Type: Surface Mount; Operating Temperature: -65°C ~ 150°C (TJ); Package / Case: DO-214AC, SMA; Packaging: TapeAndReel; PartId: 7291; Part Status: Active; Price: 0.10; Series: P4SMA, TransZorb®; Supplier 1: DigiKey; Supplier Part Number 1: P4SMA20CA-E3/61GICT-ND; Supplier Device Package: DO-214AC (SMA); Voltage - Clamping (Max) @ Ipp: 27.7V; Voltage - Reverse Standoff (Typ): 17.1V
footprint DO214AC SMA
pins: 1, 2

## P4SMA22A-E3/61
designator D?
TVS DIODE 18.8V 30.6V DO214AC; Manufacturer: Vishay Semiconductor Diodes Division; Current - Peak Pulse (10/1000µs): 13.1A; Power Line Protection: No; Power - Peak Pulse: 400W; Type: Zener; Unidirectional Channels: 1; Voltage - Breakdown (Min): 20.9V; Part Number: P4SMA22A-E3/61; Applications: General Purpose; ComponentLink1Description: Datasheet; ComponentLink1URL: http://www.vishay.com/docs/88367/p4sma.pdf; ComponentLink2Description: DigiKey Link; ComponentLink2URL: http://digikey.com/product-detail/en/vishay-semiconductor-diodes-division/P4SMA22A-E3-61/P4SMA22A-E3-61GICT-ND/5639042; LastUpdated: 9/2/2020 1:20:14 AM; Lifecycle Status: Active; Minimum Order: 1; Mounting Type: Surface Mount; Operating Temperature: -65°C ~ 150°C (TJ); Package / Case: DO-214AC, SMA; Packaging: TapeAndReel; PartId: 5683; Part Status: Active; Price: 0.10; Series: P4SMA, TransZorb®; Supplier 1: DigiKey; Supplier Part Number 1: P4SMA22A-E3/61GICT-ND; Supplier Device Package: DO-214AC (SMA); Voltage - Clamping (Max) @ Ipp: 30.6V; Voltage - Reverse Standoff (Typ): 18.8V
footprint DO214AC SMA
pins: 1, 2

## P4SMA24A
designator D?
TVS DIODE 20.5V 33.2V DO214AC; Manufacturer: Bourns Inc.; Current - Peak Pulse (10/1000µs): 12.3A; Power Line Protection: No; Power - Peak Pulse: 400W; Type: Zener; Unidirectional Channels: 1; Voltage - Breakdown (Min): 22.8V; Part Number: P4SMA24A; Applications: General Purpose; ComponentLink1Description: Datasheet; ComponentLink1URL: https://www.bourns.com/docs/Product-Datasheets/P4SMA.pdf; ComponentLink2Description: DigiKey Link; ComponentLink2URL: http://digikey.com/product-detail/en/bourns-inc/P4SMA24A/P4SMA24ABBCT-ND/6708208; LastUpdated: 9/2/2020 1:20:18 AM; Lifecycle Status: Active; Minimum Order: 1; Mounting Type: Surface Mount; Operating Temperature: -55°C ~ 150°C (TJ); Package / Case: DO-214AC, SMA; Packaging: TapeAndReel; PartId: 6140; Part Status: Active; Price: 0.09; Series: -; Supplier 1: DigiKey; Supplier Part Number 1: P4SMA24ABBCT-ND; Supplier Device Package: DO-214AC (SMA); Voltage - Clamping (Max) @ Ipp: 33.2V; Voltage - Reverse Standoff (Typ): 20.5V
footprint DO214AC SMA
pins: 1, 2

## P4SMA24A-E3/61
designator D?
TVS DIODE 20.5V 33.2V DO214AC; Manufacturer: Vishay Semiconductor Diodes Division; Current - Peak Pulse (10/1000µs): 12A; Power Line Protection: No; Power - Peak Pulse: 400W; Type: Zener; Unidirectional Channels: 1; Voltage - Breakdown (Min): 22.8V; Part Number: P4SMA24A-E3/61; Applications: General Purpose; ComponentLink1Description: Datasheet; ComponentLink1URL: http://www.vishay.com/docs/88367/p4sma.pdf; ComponentLink2Description: DigiKey Link; ComponentLink2URL: http://digikey.com/product-detail/en/vishay-semiconductor-diodes-division/P4SMA24A-E3-61/P4SMA24A-E3-61GICT-ND/5639043; LastUpdated: 9/2/2020 1:20:18 AM; Lifecycle Status: Active; Minimum Order: 1; Mounting Type: Surface Mount; Operating Temperature: -65°C ~ 150°C (TJ); Package / Case: DO-214AC, SMA; Packaging: TapeAndReel; PartId: 6195; Part Status: Active; Price: 0.10; Series: P4SMA, TransZorb®; Supplier 1: DigiKey; Supplier Part Number 1: P4SMA24A-E3/61GICT-ND; Supplier Device Package: DO-214AC (SMA); Voltage - Clamping (Max) @ Ipp: 33.2V; Voltage - Reverse Standoff (Typ): 20.5V
footprint DO214AC SMA
pins: 1, 2

## P4SMA27A
designator D?
TVS DIODE 23.1V 37.5V DO214AC; Manufacturer: Bourns Inc.; Current - Peak Pulse (10/1000µs): 10.9A; Power Line Protection: No; Power - Peak Pulse: 400W; Type: Zener; Unidirectional Channels: 1; Voltage - Breakdown (Min): 25.7V; Part Number: P4SMA27A; Applications: General Purpose; ComponentLink1Description: Datasheet; ComponentLink1URL: https://www.bourns.com/docs/Product-Datasheets/P4SMA.pdf; ComponentLink2Description: DigiKey Link; ComponentLink2URL: http://digikey.com/product-detail/en/bourns-inc/P4SMA27A/P4SMA27ABBCT-ND/6708210; LastUpdated: 9/2/2020 1:20:14 AM; Lifecycle Status: Active; Minimum Order: 1; Mounting Type: Surface Mount; Operating Temperature: -55°C ~ 150°C (TJ); Package / Case: DO-214AC, SMA; Packaging: TapeAndReel; PartId: 5666; Part Status: Active; Price: 0.09; Series: -; Supplier 1: DigiKey; Supplier Part Number 1: P4SMA27ABBCT-ND; Supplier Device Package: DO-214AC (SMA); Voltage - Clamping (Max) @ Ipp: 37.5V; Voltage - Reverse Standoff (Typ): 23.1V
footprint DO214AC SMA
pins: 1, 2

## P4SMA27A-E3/61
designator D?
TVS DIODE 23.1V 37.5V DO214AC; Manufacturer: Vishay Semiconductor Diodes Division; Current - Peak Pulse (10/1000µs): 10.7A; Power Line Protection: No; Power - Peak Pulse: 400W; Type: Zener; Unidirectional Channels: 1; Voltage - Breakdown (Min): 25.7V; Part Number: P4SMA27A-E3/61; Applications: General Purpose; ComponentLink1Description: Datasheet; ComponentLink1URL: http://www.vishay.com/docs/88367/p4sma.pdf; ComponentLink2Description: DigiKey Link; ComponentLink2URL: http://digikey.com/product-detail/en/vishay-semiconductor-diodes-division/P4SMA27A-E3-61/P4SMA27A-E3-61GICT-ND/5639045; LastUpdated: 9/2/2020 1:20:13 AM; Lifecycle Status: Active; Minimum Order: 1; Mounting Type: Surface Mount; Operating Temperature: -65°C ~ 150°C (TJ); Package / Case: DO-214AC, SMA; Packaging: TapeAndReel; PartId: 5590; Part Status: Active; Price: 0.10; Series: P4SMA, TransZorb®; Supplier 1: DigiKey; Supplier Part Number 1: P4SMA27A-E3/61GICT-ND; Supplier Device Package: DO-214AC (SMA); Voltage - Clamping (Max) @ Ipp: 37.5V; Voltage - Reverse Standoff (Typ): 23.1V
footprint DO214AC SMA
pins: 1, 2